# Altium footprint library SamacSys.PcbLib: 5 footprints
Each footprint in its own frame and in the unit in brackets; x right, y up, seen from the top. Pads: shape width x height; smd on the part's side, far side on the other; paste and mask are expansions set on the pad; w line width, h text height; cw(c..) or ccw(c..) is an arc to the next point about the centre after c.
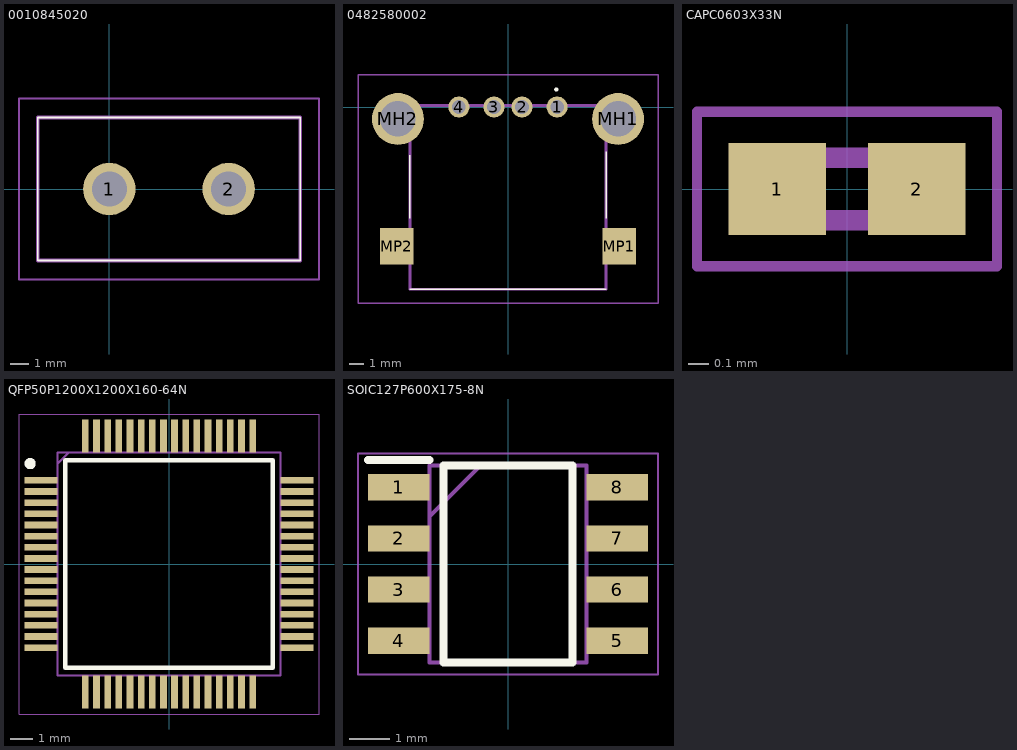
[diagram p0: the footprints below, top view; thin cyan lines are the x and y axes]

## 0010845020 [mm]
pads (2):
  round 2.79 hole 1.86: 1(0,0) 2(6.35,0)
Top Overlay:
  lines w0.1: -3.81,-3.81 10.16,-3.81 10.16,3.81 -3.81,3.81 -3.81,-3.81
Mechanical 13:
  lines w0.2: -3.81,-3.81 10.16,-3.81 10.16,3.81 -3.81,3.81 -3.81,-3.81
Mechanical 15:
  lines w0.1: -4.81,-4.81 11.16,-4.81 11.16,4.81 -4.81,4.81 -4.81,-4.81
3D body "0010845020.stp": height 14.32, standoff -5, extent -3.81,-3.81 10.16,3.81

## 0482580002 [mm]
pads (8):
  round 1.509 hole 0.97: 1(3.5,0) 2(1,0) 3(-1,0) 4(-3.5,0)
  round 3.705 hole 2.535: MH1(7.85,-0.85) MH2(-7.85,-0.85)
  rect 2.4x2.6 smd: MP1(7.95,-9.95) MP2(-7.95,-9.95)
Top Overlay:
  lines w0.1: -7,-13 7,-13 -7,-13 ; -7,-7.95 -7,-3.45 -7,-7.95 ; 7,-7.95 7,-3.2 7,-7.95
  lines w0.2: 3.4,1.25 ccw(c3.45,1.25) 3.5,1.25 ; 3.4,1.25 cw(c3.45,1.25) 3.5,1.25 ; 3.4,1.25 ccw(c3.45,1.25) 3.5,1.25
Mechanical 13:
  lines w0.2: -7,-13 7,-13 7,0.1 -7,0.1 -7,-13
Mechanical 15:
  lines w0.1: -10.703,-14 10.703,-14 10.703,2.3 -10.703,2.3 -10.703,-14
3D body "0482580002.stp": height 7, standoff -5, extent -9.008,-13 9.018,0.384

## CAPC0603X33N [mm]
pads (2):
  rect 0.47x0.44 smd: 1(-0.335,0) 2(0.335,0)
Mechanical 13:
  lines w0.1: -0.3,-0.15 -0.3,0.15 0.3,0.15 0.3,-0.15 -0.3,-0.15
Mechanical 15:
  lines w0.05: -0.72,-0.37 -0.72,0.37 0.72,0.37 0.72,-0.37 -0.72,-0.37
3D body "02013A100DAT2A.stp": height 0.33, standoff 0, extent -0.3,-0.15 0.3,0.15

## QFP50P1200X1200X160-64N [mm]
pads (64):
  rect 1.475x0.3 smd: 1(-5.738,3.75) 2(-5.738,3.25) 3(-5.738,2.75) 4(-5.738,2.25) 5(-5.738,1.75) 6(-5.738,1.25) 7(-5.738,0.75) 8(-5.738,0.25) 9(-5.738,-0.25) 10(-5.738,-0.75) 11(-5.738,-1.25) 12(-5.738,-1.75) 13(-5.738,-2.25) 14(-5.738,-2.75) 15(-5.738,-3.25) 16(-5.738,-3.75) 33(5.738,-3.75) 34(5.738,-3.25) 35(5.738,-2.75) 36(5.738,-2.25) 37(5.738,-1.75) 38(5.738,-1.25) 39(5.738,-0.75) 40(5.738,-0.25) 41(5.738,0.25) 42(5.738,0.75) 43(5.738,1.25) 44(5.738,1.75) 45(5.738,2.25) 46(5.738,2.75) 47(5.738,3.25) 48(5.738,3.75)
  rect 0.3x1.475 smd: 17(-3.75,-5.738) 18(-3.25,-5.738) 19(-2.75,-5.738) 20(-2.25,-5.738) 21(-1.75,-5.738) 22(-1.25,-5.738) 23(-0.75,-5.738) 24(-0.25,-5.738) 25(0.25,-5.738) 26(0.75,-5.738) 27(1.25,-5.738) 28(1.75,-5.738) 29(2.25,-5.738) 30(2.75,-5.738) 31(3.25,-5.738) 32(3.75,-5.738) 49(3.75,5.738) 50(3.25,5.738) 51(2.75,5.738) 52(2.25,5.738) 53(1.75,5.738) 54(1.25,5.738) 55(0.75,5.738) 56(0.25,5.738) 57(-0.25,5.738) 58(-0.75,5.738) 59(-1.25,5.738) 60(-1.75,5.738) 61(-2.25,5.738) 62(-2.75,5.738) 63(-3.25,5.738) 64(-3.75,5.738)
Top Overlay:
  circle w0.25: c-6.225,4.5 r0.125
  lines w0.2: -4.65,-4.65 4.65,-4.65 4.65,4.65 -4.65,4.65 -4.65,-4.65
Mechanical 13:
  lines w0.1: -5,4.5 -4.5,5 ; -5,-5 5,-5 5,5 -5,5 -5,-5
Mechanical 15:
  lines w0.05: -6.725,-6.725 6.725,-6.725 6.725,6.725 -6.725,6.725 -6.725,-6.725
3D body "STM32F105RCT6.stp": height 1.6, standoff 0, extent -6,-6 6,6

## SOIC127P600X175-8N [mm]
pads (8):
  rect 1.525x0.65 smd: 1(-2.712,1.905) 2(-2.712,0.635) 3(-2.712,-0.635) 4(-2.712,-1.905) 5(2.712,-1.905) 6(2.712,-0.635) 7(2.712,0.635) 8(2.712,1.905)
Top Overlay:
  lines w0.2: -3.475,2.58 -1.95,2.58 ; -1.6,-2.45 1.6,-2.45 1.6,2.45 -1.6,2.45 -1.6,-2.45
Mechanical 13:
  lines w0.1: -1.95,1.18 -0.68,2.45 ; -1.95,-2.45 1.95,-2.45 1.95,2.45 -1.95,2.45 -1.95,-2.45
Mechanical 15:
  lines w0.05: -3.725,-2.75 3.725,-2.75 3.725,2.75 -3.725,2.75 -3.725,-2.75
3D body "NE555DR.stp": height 1.75, standoff 0, extent -3,-2.45 3,2.45